# Altium schematic symbol library TPS63060DSCR.SchLib: 1 symbol
Pins are listed as number, name and electrical type; pins without a type are passive.

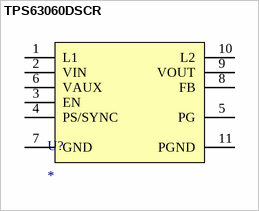
[diagram p0: symbol TPS63060DSCR]

## TPS63060DSCR
designator U?
pins: 1 L1, 2 VIN, 3 EN, 4 PS/SYNC, 5 PG, 6 VAUX, 7 GND, 8 FB, 9 VOUT, 10 L2, 11 PGND